# Altium footprint library SIM_Card_Holder_footprint.PcbLib: 1 footprints
Each footprint in its own frame and in the unit in brackets; x right, y up, seen from the top. Pads: shape width x height; smd on the part's side, far side on the other; paste and mask are expansions set on the pad; w line width, h text height; cw(c..) or ccw(c..) is an arc to the next point about the centre after c.
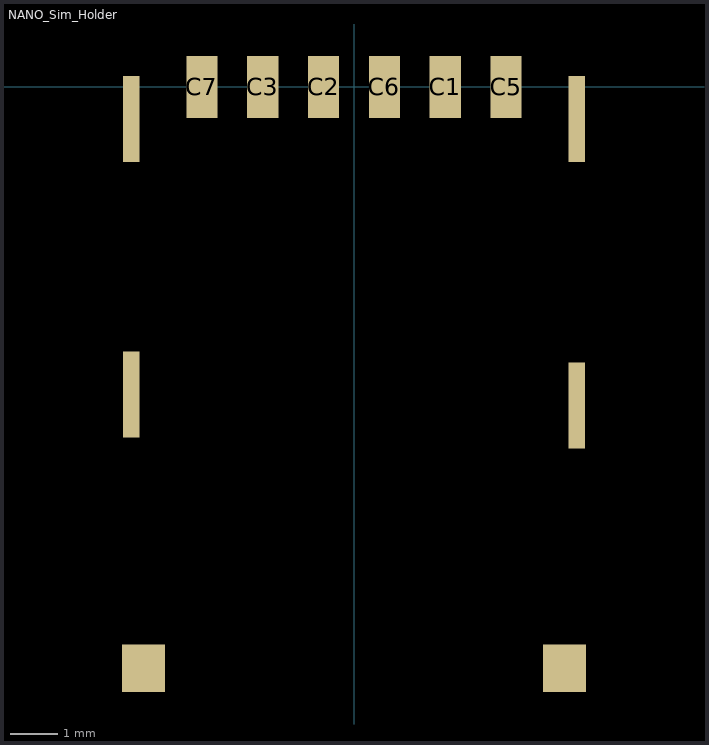
[diagram p0: the footprint, top view; thin cyan lines are the x and y axes]

## NANO_Sim_Holder [mm]
pads (12):
  rect 0.65x1.3 smd: C1(1.905,0) C2(-0.635,0) C3(-1.905,0) C5(3.175,0) C6(0.635,0) C7(-3.175,0)
  rect 0.35x1.8 smd: ""(-4.65,-6.42) ""(-4.65,-0.67) ""(4.65,-6.65) ""(4.65,-0.67)
  rect 0.9x1 smd: ""(-4.4,-12.14) ""(4.4,-12.14)
3D body: height 1.1, standoff -0.11, extent -4.75,-12.6 4.75,-0.1